# Altium schematic symbol library parts.SCHLIB: 30 symbols
Pins are listed as number, name and electrical type; pins without a type are passive.

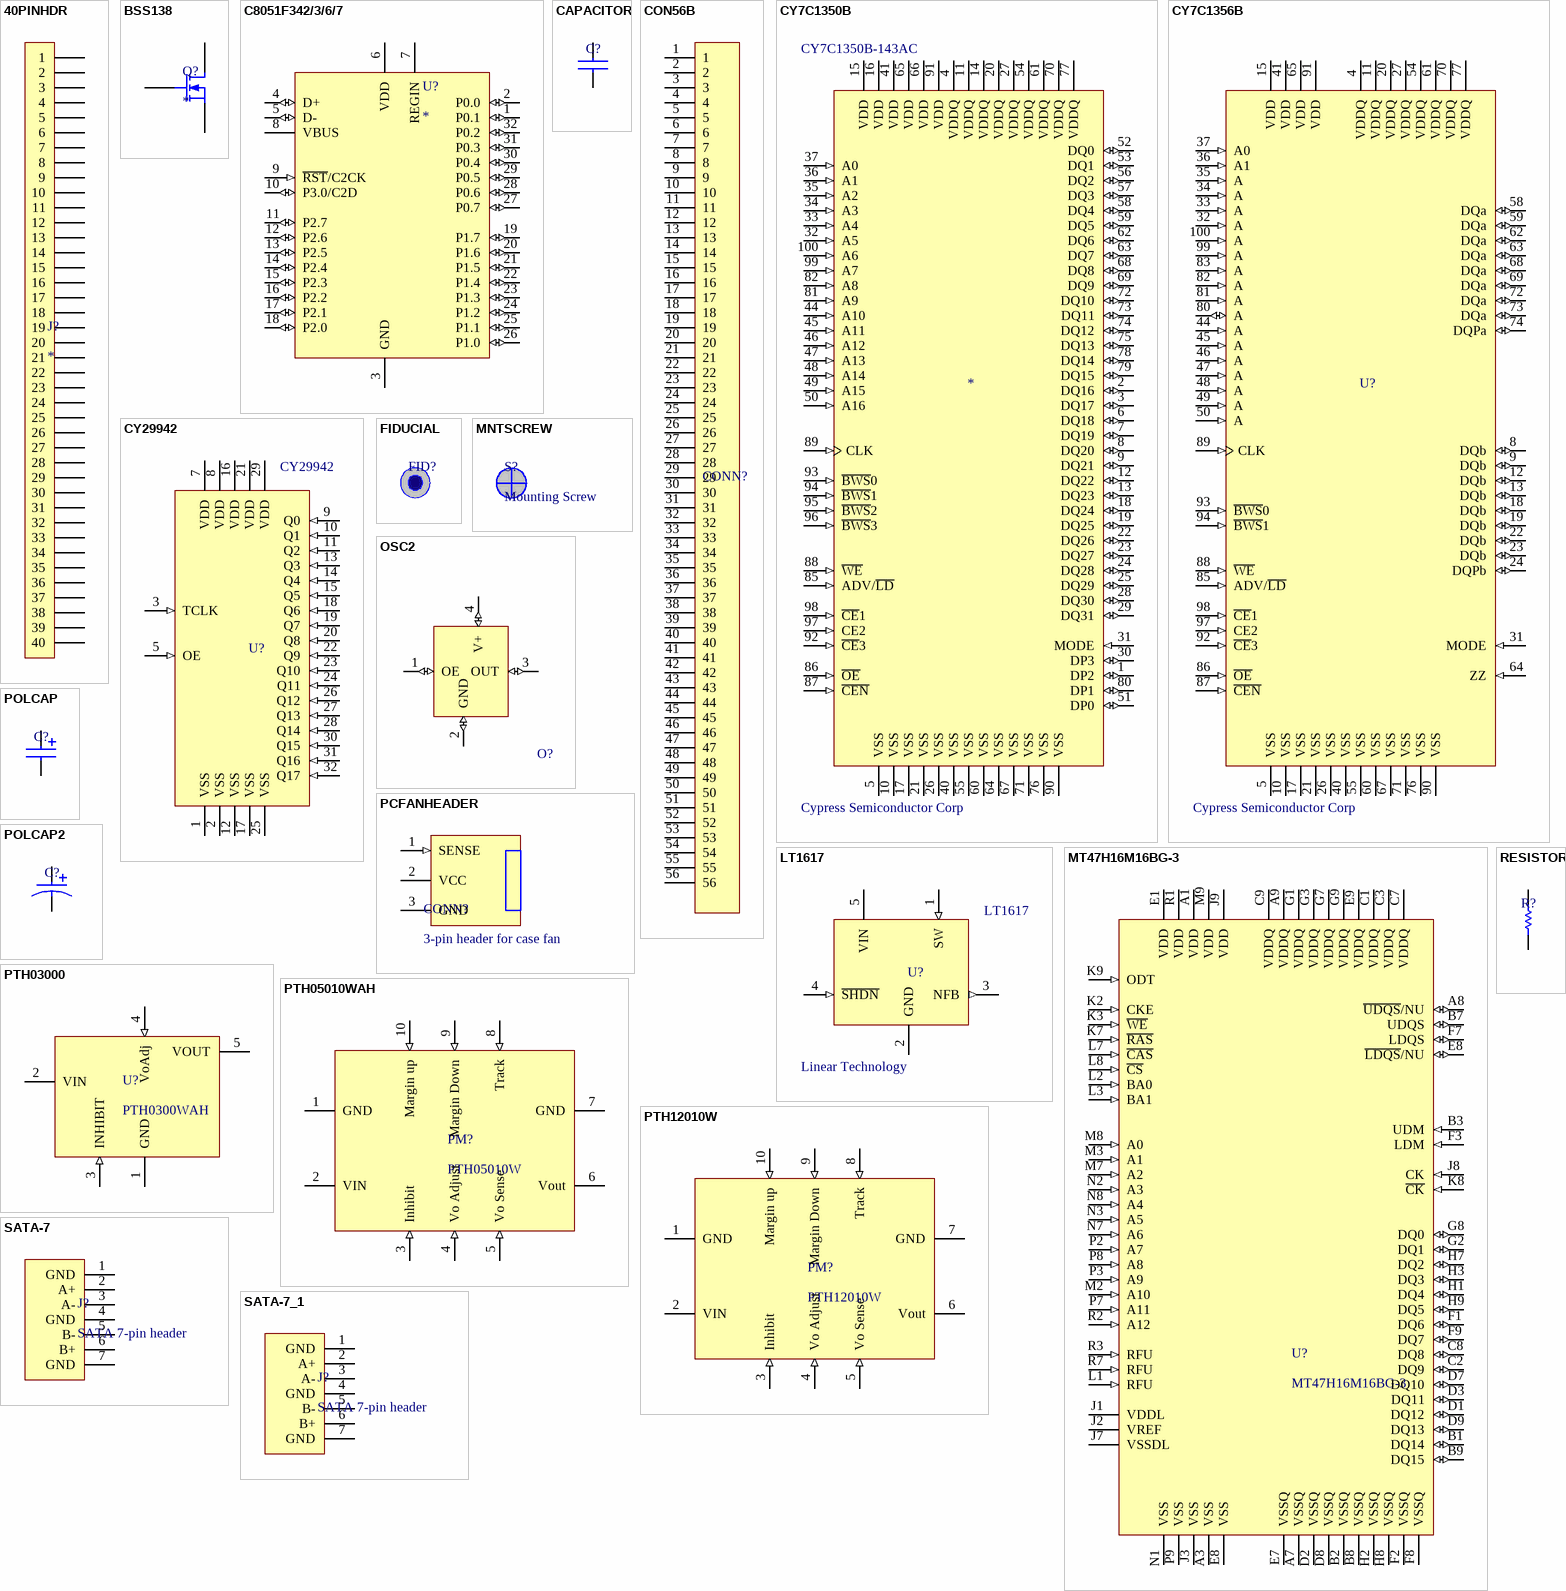
[diagram p0: symbols 40PINHDR to SATA-7_1]

## 40PINHDR
designator J?
footprint Model Name (Footprint not found)
pins: 1, 2, 3, 4, 5, 6, 7, 8, 9, 10, 11, 12, 13, 14, 15, 16, 17, 18, 19, 20, 21, 22, 23, 24, 25, 26, 27, 28, 29, 30, 31, 32, 33, 34, 35, 36, 37, 38, 39, 40

## BSS138
designator Q?
footprint SO-G3/D4.1 (SOT-23; 3 Leads; Body 3.0 x 2.5 mm, inc. leads (LxW max), Alternate Lead Configuration)
pins: 1 D, 2 G, 3 S

## C8051F342/3/6/7
designator U?
SiLiabs USB Micro
footprint QFP7x7-G32/N (QFP; 32 Leads; Body 7 x 7 mm; Pitch 0.8 mm)
pins: 1 P0.1 (io), 2 P0.0 (io), 3 GND (power), 4 D+ (io), 5 D- (io), 6 VDD (power), 7 REGIN (power), 8 VBUS (power), 9 ~{RST}/C2CK (in), 10 P3.0/C2D (io), 11 P2.7 (io), 12 P2.6 (io), 13 P2.5 (io), 14 P2.4 (io), 15 P2.3 (io), 16 P2.2 (io), 17 P2.1 (io), 18 P2.0 (io), 19 P1.7 (io), 20 P1.6 (io), 21 P1.5 (io), 22 P1.4 (io), 23 P1.3 (io), 24 P1.2 (io), 25 P1.1 (io), 26 P1.0 (io), 27 P0.7 (io), 28 P0.6 (io), 29 P0.5 (io), 30 P0.4 (io), 31 P0.3 (io), 32 P0.2 (io)

## CAPACITOR
designator C?
Standard Capacitor; Type: X7R
footprint 0603 (Standard-sized 0603 Passive)
pins: 1, 2

## CON56B
designator CONN?  (value not drawn)
footprint HDR56
pins: 1, 2, 3, 4, 5, 6, 7, 8, 9, 10, 11, 12, 13, 14, 15, 16, 17, 18, 19, 20, 21, 22, 23, 24, 25, 26, 27, 28, 29, 30, 31, 32, 33, 34, 35, 36, 37, 38, 39, 40, 41, 42, 43, 44, 45, 46, 47, 48, 49, 50, 51, 52, 53, 54, 55, 56

## CY7C1350B
designator *, comment CY7C1350B-143AC  Vendor: Cypress Semiconductor Corp
NoBL Pipelined SRAM 128kx36
footprint R-QFP14x20-G100/N
pins: 1 DP2 (io), 2 DQ16 (io), 3 DQ17 (io), 4 VDDQ (power), 5 VSS (power), 6 DQ18 (io), 7 DQ19 (io), 8 DQ20 (io), 9 DQ21 (io), 10 VSS (power), 11 VDDQ (power), 12 DQ22 (io), 13 DQ23 (io), 14 VDDQ (power), 15 VDD (power), 16 VDD (power), 17 VSS (power), 18 DQ24 (io), 19 DQ25 (io), 20 VDDQ (power), 21 VSS (power), 22 DQ26 (io), 23 DQ27 (io), 24 DQ28 (io), 25 DQ29 (io), 26 VSS (power), 27 VDDQ (power), 28 DQ30 (io), 29 DQ31 (io), 30 DP3 (io), 31 MODE (in), 32 A5 (in), 33 A4 (in), 34 A3 (in), 35 A2 (in), 36 A1 (in), 37 A0 (in), 40 VSS (power), 41 VDD (power), 44 A10 (in), 45 A11 (in), 46 A12 (in), 47 A13 (in), 48 A14 (in), 49 A15 (in), 50 A16 (in), 51 DP0 (io), 52 DQ0 (io), 53 DQ1 (io), 54 VDDQ (power), 55 VSS (power), 56 DQ2 (io), 57 DQ3 (io), 58 DQ4 (io), 59 DQ5 (io), 60 VSS (power), 61 VDDQ (power), 62 DQ6 (io), 63 DQ7 (io), 64 VSS (power), 65 VDD (power), 66 VDD (power), 67 VSS (power), 68 DQ8 (io), 69 DQ9 (io), 70 VDDQ (power), 71 VSS (power), 72 DQ10 (io), 73 DQ11 (io), 74 DQ12 (io), 75 DQ13 (io), 76 VSS (power), 77 VDDQ (power), 78 DQ14 (io), 79 DQ15 (io), 80 DP1 (io), 81 A9 (in), 82 A8 (in), 85 ADV/~{LD} (in), 86 ~{OE} (in), 87 ~{CEN} (in), 88 ~{WE} (in), 89 CLK (in), 90 VSS (power), 91 VDD (power), 92 ~{CE}3 (in), 93 ~{BWS}0 (in), 94 ~{BWS}1 (in), 95 ~{BWS}2 (in), 96 ~{BWS}3 (in), 97 CE2 (in), 98 ~{CE}1 (in), 99 A7 (in), 100 A6 (in)

## CY7C1356B
designator U?  Vendor: Cypress Semiconductor Corp
NoBL Pipelined SRAM 512kx18
footprint R-QFP14x20-G100/N
pins: 4 VDDQ (power), 5 VSS (power), 8 DQb (io), 9 DQb (io), 10 VSS (power), 11 VDDQ (power), 12 DQb (io), 13 DQb (io), 15 VDD (power), 17 VSS (power), 18 DQb (io), 19 DQb (io), 20 VDDQ (power), 21 VSS (power), 22 DQb (io), 23 DQb (io), 24 DQPb (io), 26 VSS (power), 27 VDDQ (power), 31 MODE (in), 32 A (in), 33 A (in), 34 A (in), 35 A (in), 36 A1 (in), 37 A0 (in), 40 VSS (power), 41 VDD (power), 44 A (in), 45 A (in), 46 A (in), 47 A (in), 48 A (in), 49 A (in), 50 A (in), 54 VDDQ (power), 55 VSS (power), 58 DQa (io), 59 DQa (io), 60 VSS (power), 61 VDDQ (power), 62 DQa (io), 63 DQa (io), 64 ZZ (in), 65 VDD (power), 67 VSS (power), 68 DQa (io), 69 DQa (io), 70 VDDQ (power), 71 VSS (power), 72 DQa (io), 73 DQa (io), 74 DQPa (io), 76 VSS (power), 77 VDDQ (power), 80 A (io), 81 A (in), 82 A (in), 83 A (in), 85 ADV/~{LD} (in), 86 ~{OE} (in), 87 ~{CEN} (in), 88 ~{WE} (in), 89 CLK (in), 90 VSS (power), 91 VDD (power), 92 ~{CE}3 (in), 93 ~{BWS}0 (in), 94 ~{BWS}1 (in), 97 CE2 (in), 98 ~{CE}1 (in), 99 A (in), 100 A (in)

## CY29942
designator U?
LVTTL 1:18 clock distribution IC
footprint QFP7X7-G32/N
pins: 1 VSS (power), 2 VSS (power), 3 TCLK (in), 5 OE (in), 7 VDD (power), 8 VDD (power), 9 Q0 (in), 10 Q1 (in), 11 Q2 (in), 12 VSS (power), 13 Q3 (in), 14 Q4 (in), 15 Q5 (in), 16 VDD (power), 17 VSS (power), 18 Q6 (in), 19 Q7 (in), 20 Q8 (in), 21 VDD (power), 22 Q9 (in), 23 Q10 (in), 24 Q11 (in), 25 VSS (power), 26 Q12 (in), 27 Q13 (in), 28 Q14 (in), 29 VDD (power), 30 Q15 (in), 31 Q16 (in), 32 Q17 (in)

## FIDUCIAL
designator FID?  (value not drawn)
Fiducial
footprint FIDUCIAL (Fiducial footprint as recommended by PCBpro)

## LT1617
designator U?  Vendor: Linear Technology
Micropower Inverting DC/DC converter
footprint SO-G5/P.95
pins: 1 SW (in), 2 GND (power), 3 NFB (out), 4 ~{SHDN} (in), 5 VIN (power)

## MNTSCREW
designator S?, comment Mounting Screw
footprint SCREW6-32 (6-32 screw)

## MT47H16M16BG-3
designator U?
Micron DDR2 SDRAM
footprint MICRON84FBGA (Footprint not found)
pins: A1 VDD (power), A3 VSS (power), A7 VSSQ (power), A8 ~{UDQS}/NU (io), A9 VDDQ (power), B1 DQ14 (io), B2 VSSQ (power), B3 UDM (in), B7 UDQS (io), B8 VSSQ (power), B9 DQ15 (io), C1 VDDQ (power), C2 DQ9 (io), C3 VDDQ (power), C7 VDDQ (power), C8 DQ8 (io), C9 VDDQ (power), D1 DQ12 (io), D2 VSSQ (power), D3 DQ11 (io), D7 DQ10 (io), D8 VSSQ (power), D9 DQ13 (io), E1 VDD (power), E7 VSSQ (power), E8 VSS (power), E8 ~{LDQS}/NU (io), E9 VDDQ (power), F1 DQ6 (io), F2 VSSQ (power), F3 LDM (in), F7 LDQS (io), F8 VSSQ (power), F9 DQ7 (io), G1 VDDQ (power), G2 DQ1 (io), G3 VDDQ (power), G7 VDDQ (power), G8 DQ0 (io), G9 VDDQ (power), H1 DQ4 (io), H2 VSSQ (power), H3 DQ3 (io), H7 DQ2 (io), H8 VSSQ (power), H9 DQ5 (io), J1 VDDL (power), J2 VREF (power), J3 VSS (power), J7 VSSDL (power), J8 CK (in), J9 VDD (power), K2 CKE (in), K3 ~{WE} (in), K7 ~{RAS} (in), K8 ~{CK} (in), K9 ODT (in), L1 RFU (in), L2 BA0 (in), L3 BA1 (in), L7 ~{CAS} (in), L8 ~{CS} (in), M2 A10 (in), M3 A1 (in), M7 A2 (in), M8 A0 (in), M9 VDD (power), N1 VSS (power), N2 A3 (in), N3 A5 (in), N7 A6 (in), N8 A4 (in), P2 A7 (in), P3 A9 (in), P7 A11 (in), P8 A8 (in), P9 VSS (power), R1 VDD (power), R2 A12 (in), R3 RFU (in), R7 RFU (in)

## OSC2
designator O?
ECS SMD Oscillator, ECS-3953M
footprint ECS-3953M (ECS SMD CLOCK OSCILLATOR)
pins: 1 OE (io), 2 GND (io), 3 OUT (io), 4 V+ (io)

## PCFANHEADER
designator CONN?, comment 3-pin header for case fan
footprint CASEFANHDR (3-pin polarized case fan header)
pins: 1 SENSE (in), 2 VCC (power), 3 GND (power)

## POLCAP
designator C?
Standard Capacitor; Type: X7R
footprint 3216 (Standard-Sized 3216 Polarized Leadless Cap)
pins: 1, 2

## POLCAP2
designator C?
Standard Capacitor; Type: Tantalum
footprint 3216 (Standard-Sized 3216 Polarized Leadless Cap)
pins: 1, 2

## PTH03000
designator U?, comment PTH0300WAH
TI 6A 3.3V Input Power Modle
footprint TI EUS (Package for TI PTH03000W)
pins: 1 GND (power), 2 VIN (power), 3 INHIBIT (in), 4 VoAdj (in), 5 VOUT (power)

## PTH05010WAH
designator PM?, comment PTH05010W
15-A 5V Input Non-isolated wide-output adj
footprint PTH03010WTH (Through-hole power module)
pins: 1 GND (power), 2 VIN (power), 3 Inhibit (in), 4 Vo Adjust (in), 5 Vo Sense (in), 6 Vout (power), 7 GND (power), 8 Track (in), 9 Margin Down (in), 10 Margin up (in)

## PTH12010W
designator PM?
12A 12V Input Non-isolated wide-output adj
footprint PTH12010WAS (Through-hole power module - EUJ package)
pins: 1 GND (power), 2 VIN (power), 3 Inhibit (in), 4 Vo Adjust (in), 5 Vo Sense (in), 6 Vout (power), 7 GND (power), 8 Track (in), 9 Margin Down (in), 10 Margin up (in)

## RESISTOR
designator R?
Standard Passive Resistor
footprint 0603 (Standard-sized 0603 Passive)
pins: 1, 2

## SATA-7
designator J?, comment SATA 7-pin header
footprint MOLES 67800-5005 (SATA vertical PCB HEADER SMT)
pins: 1 GND, 2 A+, 3 A-, 4 GND, 5 B-, 6 B+, 7 GND

## SATA-7_1
designator J?, comment SATA 7-pin header
footprint MOLES 67800-5005 (SATA vertical PCB HEADER SMT)
pins: 1 GND, 2 A+, 3 A-, 4 GND, 5 B-, 6 B+, 7 GND

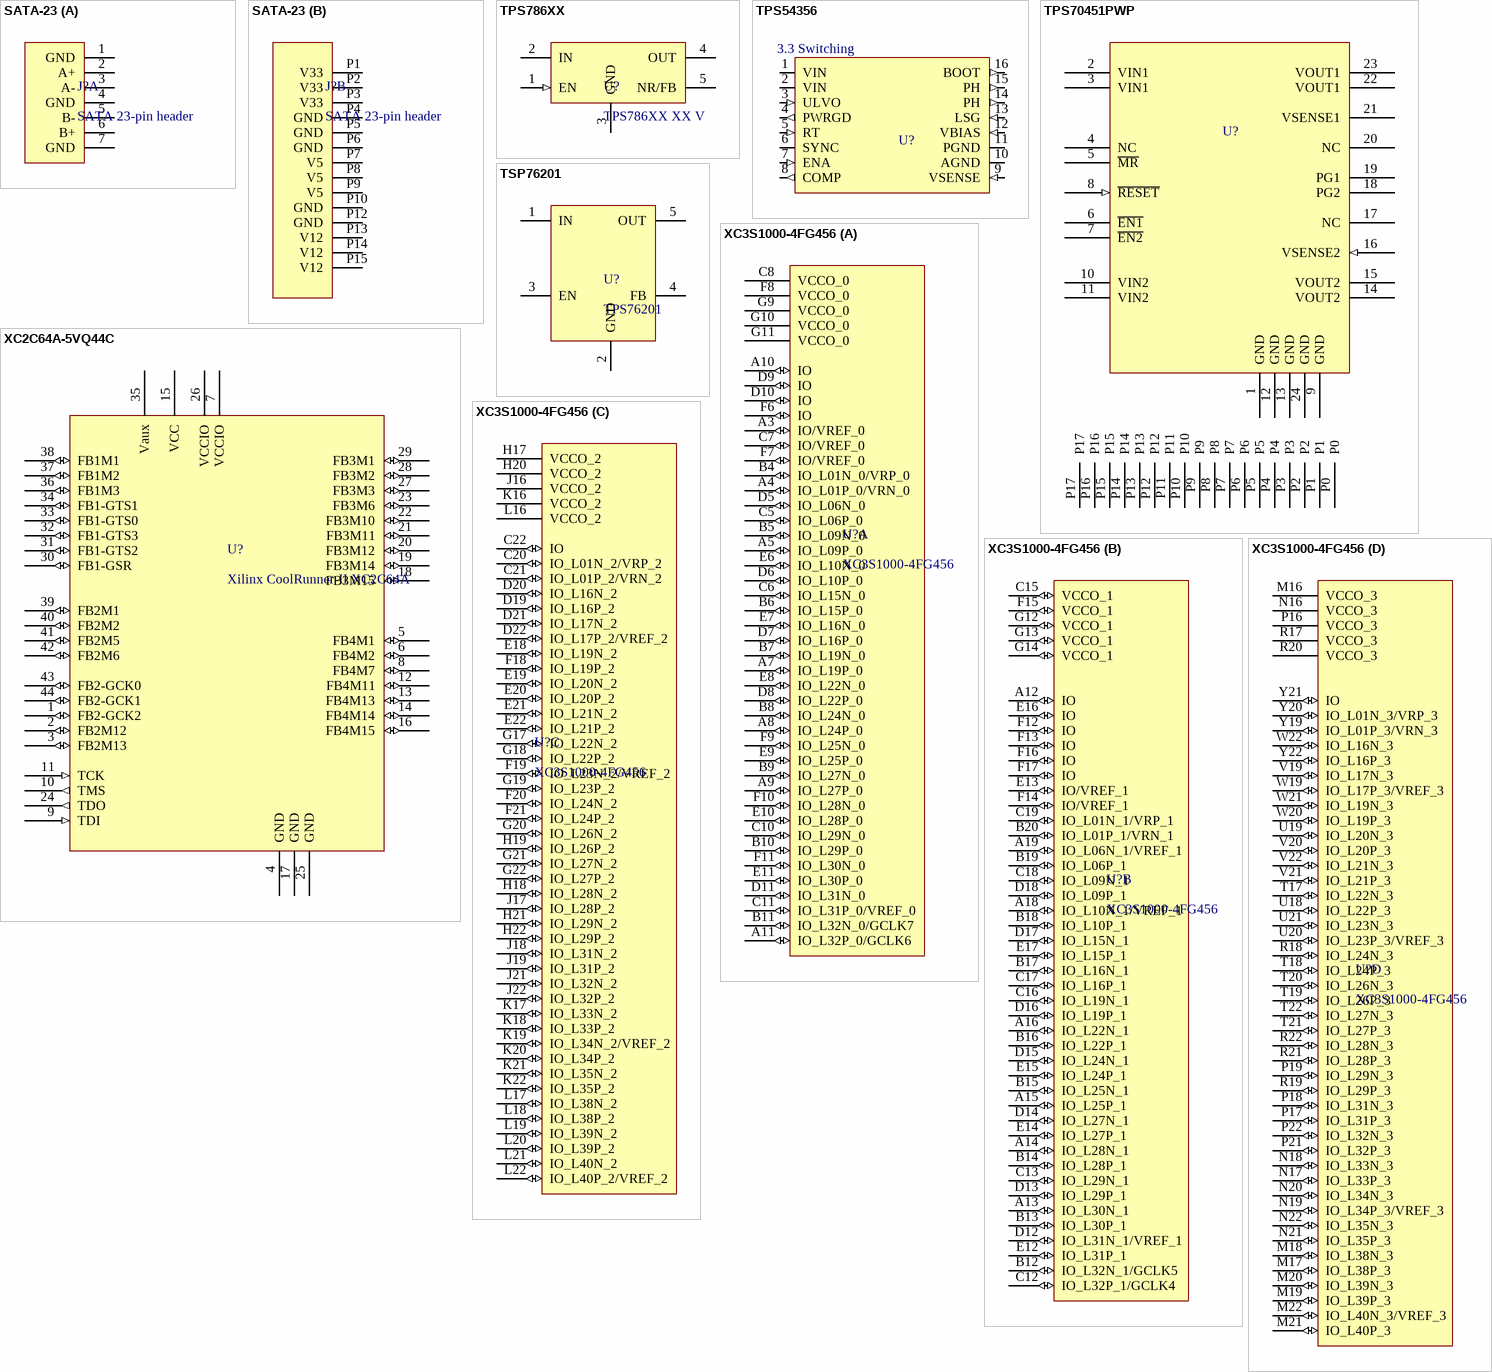
[diagram p1: symbols SATA-23 to XC3S1000-4FG456]

## SATA-23
designator J?, comment SATA 23-pin header
footprint MOLEX 87713-1001 (Molex Serial ATA Backplane Std. Height)
part A pins: 1 GND, 2 A+, 3 A-, 4 GND, 5 B-, 6 B+, 7 GND
part B pins: P1 V33, P2 V33, P3 V33, P4 GND, P5 GND, P6 GND, P7 V5, P8 V5, P9 V5, P10 GND, P12 GND, P13 V12, P14 V12, P15 V12

## TPS786XX
designator U?, comment TPS786XX XX V
TI 1.5A LDO
footprint KTT (TI DDPAK-5)
pins: 1 EN (in), 2 IN (power), 3 GND (power), 4 OUT (power), 5 NR/FB (power)

## TPS54356
designator U?, comment 3.3 Switching
TI 3A 3.3V out switching Regulator
footprint PWP PowerPad - 16
pins: 1 VIN (power), 2 VIN (power), 3 ULVO (in), 4 PWRGD (out), 5 RT (in), 6 SYNC (io), 7 ENA (in), 8 COMP (out), 9 VSENSE (in), 10 AGND (power), 11 PGND (power), 12 VBIAS (in), 13 LSG (in), 14 PH (out), 15 PH (out), 16 BOOT (out), P0 PAD (power) hidden to GND, P1 PAD (power) hidden to GND, P2 PAD (power) hidden to GND, P2 PAD (power) hidden to GND, P3 PAD (power) hidden to GND, P3 PAD (power) hidden to GND, P4 PAD (power) hidden to GND, P5 PAD (power) hidden to GND, P6 PAD (power) hidden to GND, P7 PAD (power) hidden to GND, P8 PAD (power) hidden to GND, P9 PAD (power) hidden to GND, P10 PAD (power) hidden to GND, P11 PAD (power) hidden to GND, P12 PAD (power) hidden to GND, P13 PAD (power) hidden to GND, P14 PAD (power) hidden to GND, P15 PAD (power) hidden to GND, P16 PAD (power) hidden to GND, P17 PAD (power) hidden to GND

## TPS70451PWP
designator U?  (value not drawn)
Dual-output High Current LDO; Vendor: Texas Instruments
footprint POWERPAD-24
pins: 1 GND (power), 2 VIN1 (power), 3 VIN1 (power), 4 NC, 5 ~{MR}, 6 ~{EN1}, 7 ~{EN2}, 8 ~{RESET} (in), 9 GND (power), 10 VIN2 (power), 11 VIN2 (power), 12 GND (power), 13 GND (power), 14 VOUT2 (power), 15 VOUT2 (power), 16 VSENSE2 (in), 17 NC, 18 PG2, 19 PG1, 20 NC, 21 VSENSE1, 22 VOUT1 (power), 23 VOUT1 (power), 24 GND (power), P0 (power), P1 (power), P2 (power), P3 (power), P4 (power), P5 (power), P6 (power), P7 (power), P8 (power), P9 (power), P10 (power), P11 (power), P12 (power), P13 (power), P14 (power), P15 (power), P16 (power), P17 (power)

## TSP76201
designator U?, comment TPS76201
TI 100mA LDO
footprint SO-G5/X.5 (SOT-23/SC-74A; 5 Leads; Body 3 x 3 mm, inc. leads (LxW max))
pins: 1 IN (power), 2 GND (power), 3 EN (power), 4 FB (power), 5 OUT (power)

## XC2C64A-5VQ44C
designator U?, comment Xilinx CoolRunner-II XC2C64A
footprint QFP10x10-G44/G10N (QFP, Metric; 44 Leads; Body 10 x 10 mm; Pitch 0.8 mm)
pins: 1 FB2-GCK2 (io), 2 FB2M12 (io), 3 FB2M13 (io), 4 GND (power), 5 FB4M1 (io), 6 FB4M2 (io), 7 VCCIO (power), 8 FB4M7 (io), 9 TDI (in), 10 TMS (out), 11 TCK (in), 12 FB4M11 (io), 13 FB4M13 (io), 14 FB4M14 (io), 15 VCC (power), 16 FB4M15 (io), 17 GND (power), 18 FB3M15 (io), 19 FB3M14 (io), 20 FB3M12 (io), 21 FB3M11 (io), 22 FB3M10 (io), 23 FB3M6 (io), 24 TDO (out), 25 GND (power), 26 VCCIO (power), 27 FB3M3 (io), 28 FB3M2 (io), 29 FB3M1 (io), 30 FB1-GSR (io), 31 FB1-GTS2 (io), 32 FB1-GTS3 (io), 33 FB1-GTS0 (io), 34 FB1-GTS1 (io), 35 Vaux (power), 36 FB1M3 (io), 37 FB1M2 (io), 38 FB1M1 (io), 39 FB2M1 (io), 40 FB2M2 (io), 41 FB2M5 (io), 42 FB2M6 (io), 43 FB2-GCK0 (io), 44 FB2-GCK1 (io)

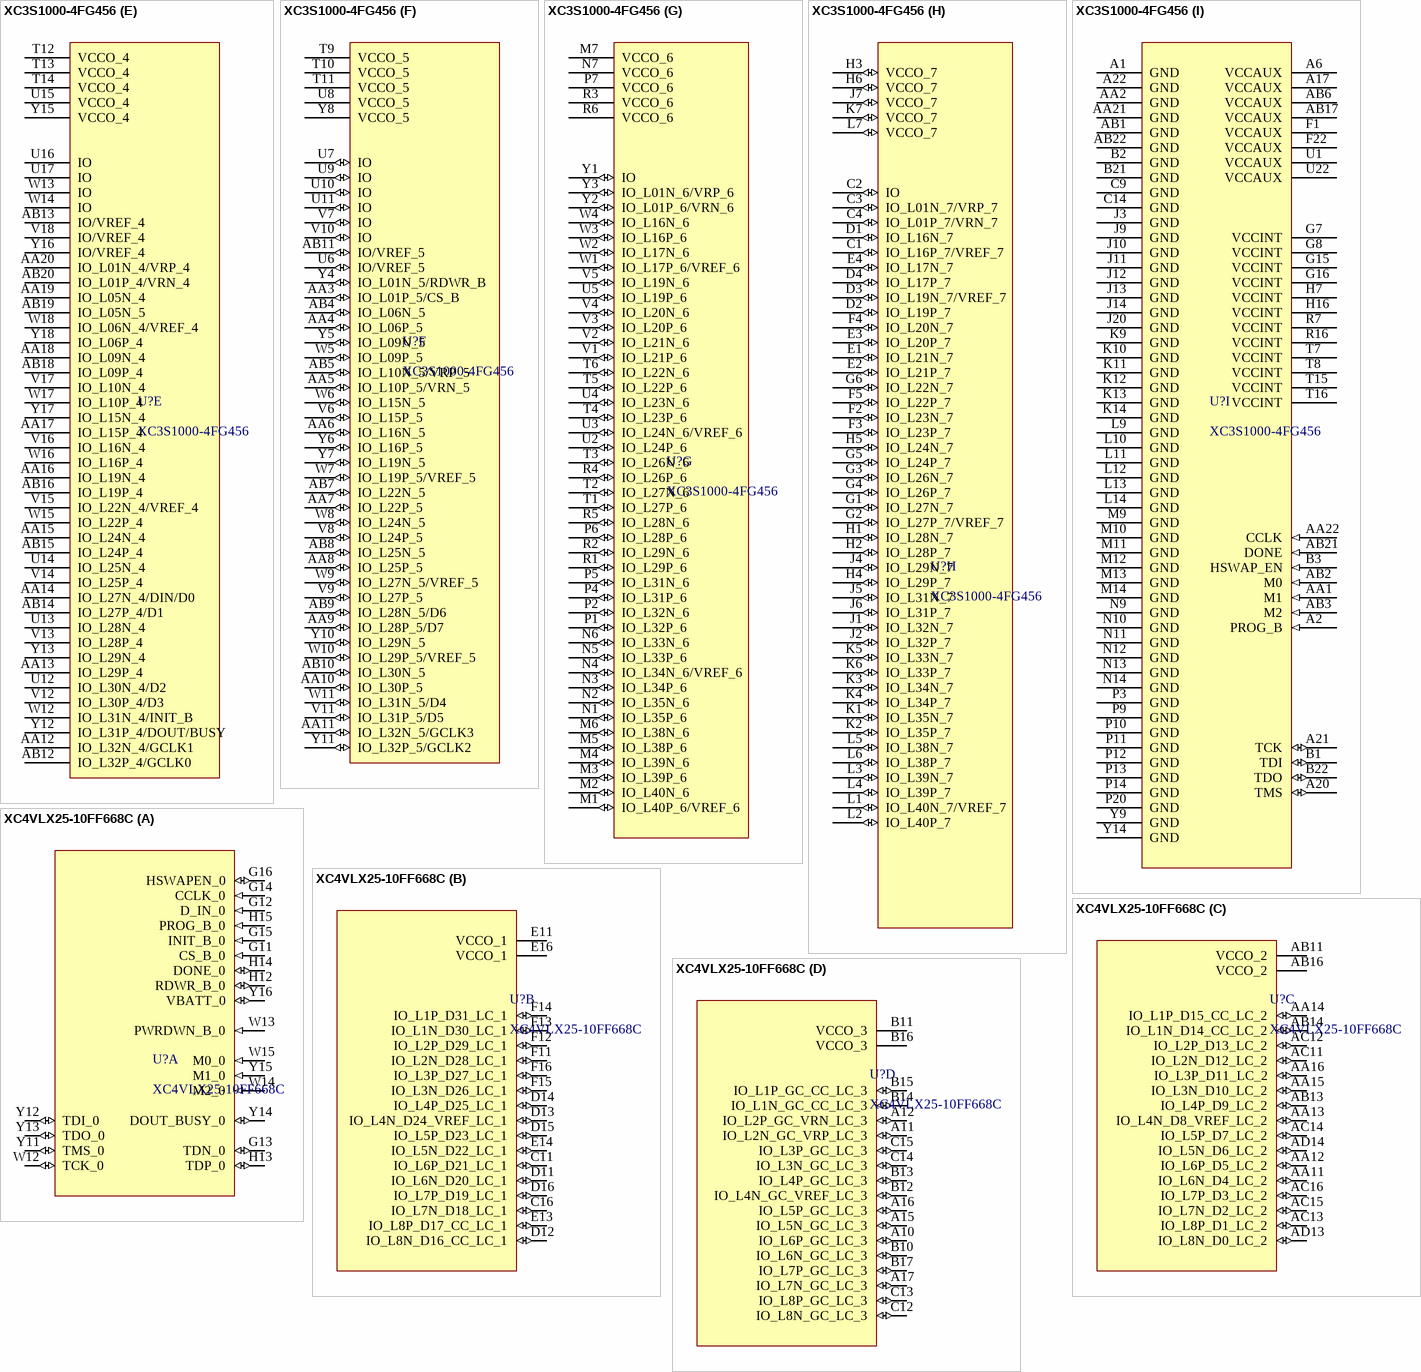
[diagram p2: symbols XC3S1000-4FG456 to XC4VLX25-10FF668C]

## XC3S1000-4FG456
designator U?
Xilinx Spartan-3 FPGA; Vendor: Xilinx
footprint FG456 (456-Ball Fine Pitch Ball Grid Array (FG456), From Altium Lib)
part A pins: A3 IO/VREF_0 (io), A4 IO_L01P_0/VRN_0 (io), A5 IO_L09P_0 (io), A7 IO_L19P_0 (io), A8 IO_L24P_0 (io), A9 IO_L27P_0 (io), A10 IO (io), A11 IO_L32P_0/GCLK6 (io), B4 IO_L01N_0/VRP_0 (io), B5 IO_L09N_0 (io), B6 IO_L15P_0 (io), B7 IO_L19N_0 (io), B8 IO_L24N_0 (io), B9 IO_L27N_0 (io), B10 IO_L29P_0 (io), B11 IO_L32N_0/GCLK7 (io), C5 IO_L06P_0 (io), C6 IO_L15N_0 (io), C7 IO/VREF_0 (io), C8 VCCO_0 (power), C10 IO_L29N_0 (io), C11 IO_L31P_0/VREF_0 (io), D5 IO_L06N_0 (io), D6 IO_L10P_0 (io), D7 IO_L16P_0 (io), D8 IO_L22P_0 (io), D9 IO (io), D10 IO (io), D11 IO_L31N_0 (io), E6 IO_L10N_0 (io), E7 IO_L16N_0 (io), E8 IO_L22N_0 (io), E9 IO_L25P_0 (io), E10 IO_L28P_0 (io), E11 IO_L30P_0 (io), F6 IO (io), F7 IO/VREF_0 (io), F8 VCCO_0 (power), F9 IO_L25N_0 (io), F10 IO_L28N_0 (io), F11 IO_L30N_0 (io), G9 VCCO_0 (power), G10 VCCO_0 (power), G11 VCCO_0 (power)
part B pins: A12 IO (io), A13 IO_L30N_1 (io), A14 IO_L28N_1 (io), A15 IO_L25P_1 (io), A16 IO_L22N_1 (io), A18 IO_L10N_1/VREF_1 (io), A19 IO_L06N_1/VREF_1 (io), B12 IO_L32N_1/GCLK5 (io), B13 IO_L30P_1 (io), B14 IO_L28P_1 (io), B15 IO_L25N_1 (io), B16 IO_L22P_1 (io), B17 IO_L16N_1 (io), B18 IO_L10P_1 (io), B19 IO_L06P_1 (io), B20 IO_L01P_1/VRN_1 (io), C12 IO_L32P_1/GCLK4 (io), C13 IO_L29N_1 (io), C15 VCCO_1 (io), C16 IO_L19N_1 (io), C17 IO_L16P_1 (io), C18 IO_L09N_1 (io), C19 IO_L01N_1/VRP_1 (io), D12 IO_L31N_1/VREF_1 (io), D13 IO_L29P_1 (io), D14 IO_L27N_1 (io), D15 IO_L24N_1 (io), D16 IO_L19P_1 (io), D17 IO_L15N_1 (io), D18 IO_L09P_1 (io), E12 IO_L31P_1 (io), E13 IO/VREF_1 (io), E14 IO_L27P_1 (io), E15 IO_L24P_1 (io), E16 IO (io), E17 IO_L15P_1 (io), F12 IO (io), F13 IO (io), F14 IO/VREF_1 (io), F15 VCCO_1 (io), F16 IO (io), F17 IO (io), G12 VCCO_1 (io), G13 VCCO_1 (io), G14 VCCO_1 (io)
part C pins: C20 IO_L01N_2/VRP_2 (io), C21 IO_L01P_2/VRN_2 (io), C22 IO (io), D19 IO_L16P_2 (io), D20 IO_L16N_2 (io), D21 IO_L17N_2 (io), D22 IO_L17P_2/VREF_2 (io), E18 IO_L19N_2 (io), E19 IO_L20N_2 (io), E20 IO_L20P_2 (io), E21 IO_L21N_2 (io), E22 IO_L21P_2 (io), F18 IO_L19P_2 (io), F19 IO_L23N_2/VREF_2 (io), F20 IO_L24N_2 (io), F21 IO_L24P_2 (io), G17 IO_L22N_2 (io), G18 IO_L22P_2 (io), G19 IO_L23P_2 (io), G20 IO_L26N_2 (io), G21 IO_L27N_2 (io), G22 IO_L27P_2 (io), H17 VCCO_2 (power), H18 IO_L28N_2 (io), H19 IO_L26P_2 (io), H20 VCCO_2 (power), H21 IO_L29N_2 (io), H22 IO_L29P_2 (io), J16 VCCO_2 (power), J17 IO_L28P_2 (io), J18 IO_L31N_2 (io), J19 IO_L31P_2 (io), J21 IO_L32N_2 (io), J22 IO_L32P_2 (io), K16 VCCO_2 (power), K17 IO_L33N_2 (io), K18 IO_L33P_2 (io), K19 IO_L34N_2/VREF_2 (io), K20 IO_L34P_2 (io), K21 IO_L35N_2 (io), K22 IO_L35P_2 (io), L16 VCCO_2 (power), L17 IO_L38N_2 (io), L18 IO_L38P_2 (io), L19 IO_L39N_2 (io), L20 IO_L39P_2 (io), L21 IO_L40N_2 (io), L22 IO_L40P_2/VREF_2 (io)
part D pins: M16 VCCO_3 (power), M17 IO_L38P_3 (io), M18 IO_L38N_3 (io), M19 IO_L39P_3 (io), M20 IO_L39N_3 (io), M21 IO_L40P_3 (io), M22 IO_L40N_3/VREF_3 (io), N16 VCCO_3 (power), N17 IO_L33P_3 (io), N18 IO_L33N_3 (io), N19 IO_L34P_3/VREF_3 (io), N20 IO_L34N_3 (io), N21 IO_L35P_3 (io), N22 IO_L35N_3 (io), P16 VCCO_3 (power), P17 IO_L31P_3 (io), P18 IO_L31N_3 (io), P19 IO_L29N_3 (io), P21 IO_L32P_3 (io), P22 IO_L32N_3 (io), R17 VCCO_3 (power), R18 IO_L24N_3 (io), R19 IO_L29P_3 (io), R20 VCCO_3 (power), R21 IO_L28P_3 (io), R22 IO_L28N_3 (io), T17 IO_L22N_3 (io), T18 IO_L24P_3 (io), T19 IO_L26P_3 (io), T20 IO_L26N_3 (io), T21 IO_L27P_3 (io), T22 IO_L27N_3 (io), U18 IO_L22P_3 (io), U19 IO_L20N_3 (io), U20 IO_L23P_3/VREF_3 (io), U21 IO_L23N_3 (io), V19 IO_L17N_3 (io), V20 IO_L20P_3 (io), V21 IO_L21P_3 (io), V22 IO_L21N_3 (io), W19 IO_L17P_3/VREF_3 (io), W20 IO_L19P_3 (io), W21 IO_L19N_3 (io), W22 IO_L16N_3 (io), Y19 IO_L01P_3/VRN_3 (io), Y20 IO_L01N_3/VRP_3 (io), Y21 IO (io), Y22 IO_L16P_3 (io)
part E pins: AA12 IO_L32N_4/GCLK1 (power), AA13 IO_L29P_4 (power), AA14 IO_L27N_4/DIN/D0 (power), AA15 IO_L24N_4 (power), AA16 IO_L19N_4 (power), AA17 IO_L15P_4 (power), AA18 IO_L09N_4 (power), AA19 IO_L05N_4 (power), AA20 IO_L01N_4/VRP_4 (power), AB12 IO_L32P_4/GCLK0 (power), AB13 IO/VREF_4 (power), AB14 IO_L27P_4/D1 (power), AB15 IO_L24P_4 (power), AB16 IO_L19P_4 (power), AB18 IO_L09P_4 (power), AB19 IO_L05N_5 (power), AB20 IO_L01P_4/VRN_4 (power), T12 VCCO_4 (power), T13 VCCO_4 (power), T14 VCCO_4 (power), U12 IO_L30N_4/D2 (power), U13 IO_L28N_4 (power), U14 IO_L25N_4 (power), U15 VCCO_4 (power), U16 IO (power), U17 IO (power), V12 IO_L30P_4/D3 (power), V13 IO_L28P_4 (power), V14 IO_L25P_4 (power), V15 IO_L22N_4/VREF_4 (power), V16 IO_L16N_4 (power), V17 IO_L10N_4 (power), V18 IO/VREF_4 (power), W12 IO_L31N_4/INIT_B (power), W13 IO (power), W14 IO (power), W15 IO_L22P_4 (power), W16 IO_L16P_4 (power), W17 IO_L10P_4 (power), W18 IO_L06N_4/VREF_4 (power), Y12 IO_L31P_4/DOUT/BUSY (power), Y13 IO_L29N_4 (power), Y15 VCCO_4 (power), Y16 IO/VREF_4 (power), Y17 IO_L15N_4 (power), Y18 IO_L06P_4 (power)
part F pins: AA3 IO_L01P_5/CS_B (io), AA4 IO_L06P_5 (io), AA5 IO_L10P_5/VRN_5 (io), AA6 IO_L16N_5 (io), AA7 IO_L22P_5 (io), AA8 IO_L25P_5 (io), AA9 IO_L28P_5/D7 (io), AA10 IO_L30P_5 (io), AA11 IO_L32N_5/GCLK3 (io), AB4 IO_L06N_5 (io), AB5 IO_L10N_5/VRP_5 (io), AB7 IO_L22N_5 (io), AB8 IO_L25N_5 (io), AB9 IO_L28N_5/D6 (io), AB10 IO_L30N_5 (io), AB11 IO/VREF_5 (io), T9 VCCO_5 (power), T10 VCCO_5 (power), T11 VCCO_5 (power), U6 IO/VREF_5 (io), U7 IO (io), U8 VCCO_5 (power), U9 IO (io), U10 IO (io), U11 IO (io), V6 IO_L15P_5 (io), V7 IO (io), V8 IO_L24P_5 (io), V9 IO_L27P_5 (io), V10 IO (io), V11 IO_L31P_5/D5 (io), W5 IO_L09P_5 (io), W6 IO_L15N_5 (io), W7 IO_L19P_5/VREF_5 (io), W8 IO_L24N_5 (io), W9 IO_L27N_5/VREF_5 (io), W10 IO_L29P_5/VREF_5 (io), W11 IO_L31N_5/D4 (io), Y4 IO_L01N_5/RDWR_B (io), Y5 IO_L09N_5 (io), Y6 IO_L16P_5 (io), Y7 IO_L19N_5 (io), Y8 VCCO_5 (power), Y10 IO_L29N_5 (io), Y11 IO_L32P_5/GCLK2 (io)
part G pins: M1 IO_L40P_6/VREF_6 (io), M2 IO_L40N_6 (io), M3 IO_L39P_6 (io), M4 IO_L39N_6 (io), M5 IO_L38P_6 (io), M6 IO_L38N_6 (io), M7 VCCO_6 (power), N1 IO_L35P_6 (io), N2 IO_L35N_6 (io), N3 IO_L34P_6 (io), N4 IO_L34N_6/VREF_6 (io), N5 IO_L33P_6 (io), N6 IO_L33N_6 (io), N7 VCCO_6 (power), P1 IO_L32P_6 (io), P2 IO_L32N_6 (io), P4 IO_L31P_6 (io), P5 IO_L31N_6 (io), P6 IO_L28P_6 (io), P7 VCCO_6 (power), R1 IO_L29P_6 (io), R2 IO_L29N_6 (io), R3 VCCO_6 (power), R4 IO_L26P_6 (io), R5 IO_L28N_6 (io), R6 VCCO_6 (power), T1 IO_L27P_6 (io), T2 IO_L27N_6 (io), T3 IO_L26N_6 (io), T4 IO_L23P_6 (io), T5 IO_L22P_6 (io), T6 IO_L22N_6 (io), U2 IO_L24P_6 (io), U3 IO_L24N_6/VREF_6 (io), U4 IO_L23N_6 (io), U5 IO_L19P_6 (io), V1 IO_L21P_6 (io), V2 IO_L21N_6 (io), V3 IO_L20P_6 (io), V4 IO_L20N_6 (io), V5 IO_L19N_6 (io), W1 IO_L17P_6/VREF_6 (io), W2 IO_L17N_6 (io), W3 IO_L16P_6 (io), W4 IO_L16N_6 (io), Y1 IO (io), Y2 IO_L01P_6/VRN_6 (io), Y3 IO_L01N_6/VRP_6 (io)
part H pins: C1 IO_L16P_7/VREF_7 (io), C2 IO (io), C3 IO_L01N_7/VRP_7 (io), C4 IO_L01P_7/VRN_7 (io), D1 IO_L16N_7 (io), D2 IO_L19P_7 (io), D3 IO_L19N_7/VREF_7 (io), D4 IO_L17P_7 (io), E1 IO_L21N_7 (io), E2 IO_L21P_7 (io), E3 IO_L20P_7 (io), E4 IO_L17N_7 (io), F2 IO_L23N_7 (io), F3 IO_L23P_7 (io), F4 IO_L20N_7 (io), F5 IO_L22P_7 (io), G1 IO_L27N_7 (io), G2 IO_L27P_7/VREF_7 (io), G3 IO_L26N_7 (io), G4 IO_L26P_7 (io), G5 IO_L24P_7 (io), G6 IO_L22N_7 (io), H1 IO_L28N_7 (io), H2 IO_L28P_7 (io), H3 VCCO_7 (io), H4 IO_L29P_7 (io), H5 IO_L24N_7 (io), H6 VCCO_7 (io), J1 IO_L32N_7 (io), J2 IO_L32P_7 (io), J4 IO_L29N_7 (io), J5 IO_L31N_7 (io), J6 IO_L31P_7 (io), J7 VCCO_7 (io), K1 IO_L35N_7 (io), K2 IO_L35P_7 (io), K3 IO_L34N_7 (io), K4 IO_L34P_7 (io), K5 IO_L33N_7 (io), K6 IO_L33P_7 (io), K7 VCCO_7 (io), L1 IO_L40N_7/VREF_7 (io), L2 IO_L40P_7 (io), L3 IO_L39N_7 (io), L4 IO_L39P_7 (io), L5 IO_L38N_7 (io), L6 IO_L38P_7 (io), L7 VCCO_7 (io)
part I pins: A1 GND (power), A2 PROG_B (in), A6 VCCAUX (power), A17 VCCAUX (power), A20 TMS (io), A21 TCK (io), A22 GND (power), AA1 M1 (in), AA2 GND (power), AA21 GND (power), AA22 CCLK (in), AB1 GND (power), AB2 M0 (in), AB3 M2 (in), AB6 VCCAUX (power), AB17 VCCAUX (power), AB21 DONE (in), AB22 GND (power), B1 TDI (io), B2 GND (power), B3 HSWAP_EN (in), B21 GND (power), B22 TDO (io), C9 GND (power), C14 GND (power), F1 VCCAUX (power), F22 VCCAUX (power), G7 VCCINT (power), G8 VCCINT (power), G15 VCCINT (power), G16 VCCINT (power), H7 VCCINT (power), H16 VCCINT (power), J3 GND (power), J9 GND (power), J10 GND (power), J11 GND (power), J12 GND (power), J13 GND (power), J14 GND (power), J20 GND (power), K9 GND (power), K10 GND (power), K11 GND (power), K12 GND (power), K13 GND (power), K14 GND (power), L9 GND (power), L10 GND (power), L11 GND (power), L12 GND (power), L13 GND (power), L14 GND (power), M9 GND (power), M10 GND (power), M11 GND (power), M12 GND (power), M13 GND (power), M14 GND (power), N9 GND (power), N10 GND (power), N11 GND (power), N12 GND (power), N13 GND (power), N14 GND (power), P3 GND (power), P9 GND (power), P10 GND (power), P11 GND (power), P12 GND (power), P13 GND (power), P14 GND (power), P20 GND (power), R7 VCCINT (power), R16 VCCINT (power), T7 VCCINT (power), T8 VCCINT (power), T15 VCCINT (power), T16 VCCINT (power), U1 VCCAUX (power), U22 VCCAUX (power), Y9 GND (power), Y14 GND (power)

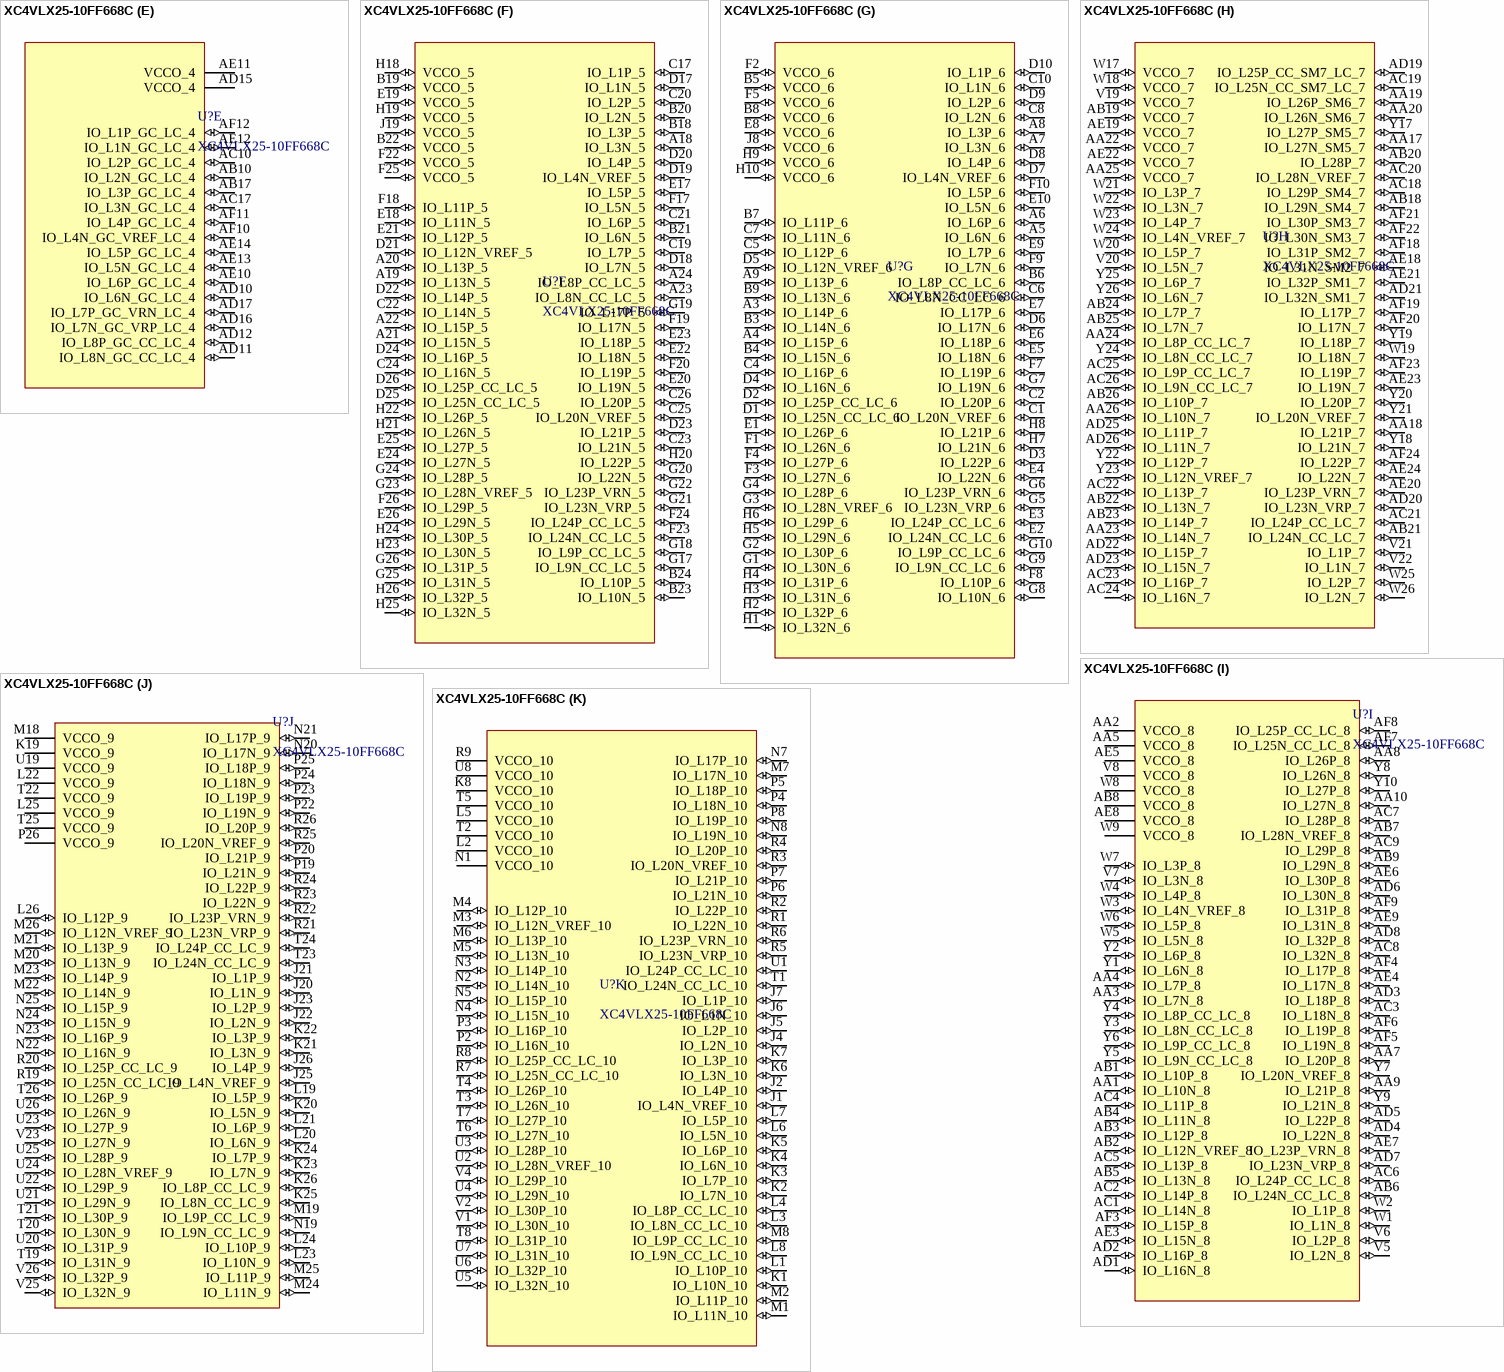
[diagram p3: symbol XC4VLX25-10FF668C]

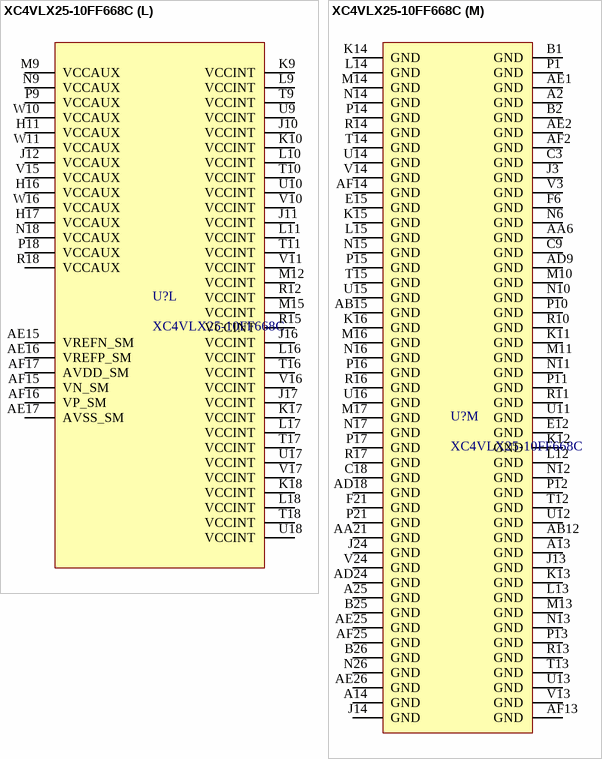
[diagram p4: symbol XC4VLX25-10FF668C]

## XC4VLX25-10FF668C
designator U?
Xilinx Virtex-4
footprint Xilinx FF668
part A pins: G11 CS_B_0 (in), G12 D_IN_0 (in), G13 TDN_0 (io), G14 CCLK_0 (in), G15 INIT_B_0 (in), G16 HSWAPEN_0 (io), H12 RDWR_B_0 (io), H13 TDP_0 (io), H14 DONE_0 (io), H15 PROG_B_0 (in), W12 TCK_0 (io), W13 PWRDWN_B_0 (in), W14 M2_0 (in), W15 M0_0 (in), Y11 TMS_0 (io), Y12 TDI_0 (io), Y13 TDO_0 (io), Y14 DOUT_BUSY_0 (io), Y15 M1_0 (in), Y16 VBATT_0 (io)
part B pins: C11 IO_L6P_D21_LC_1 (io), C16 IO_L7N_D18_LC_1 (io), D11 IO_L6N_D20_LC_1 (io), D12 IO_L8N_D16_CC_LC_1 (io), D13 IO_L4N_D24_VREF_LC_1 (io), D14 IO_L4P_D25_LC_1 (io), D15 IO_L5P_D23_LC_1 (io), D16 IO_L7P_D19_LC_1 (io), E11 VCCO_1 (power), E13 IO_L8P_D17_CC_LC_1 (io), E14 IO_L5N_D22_LC_1 (io), E16 VCCO_1 (power), F11 IO_L2N_D28_LC_1 (io), F12 IO_L2P_D29_LC_1 (io), F13 IO_L1N_D30_LC_1 (io), F14 IO_L1P_D31_LC_1 (io), F15 IO_L3N_D26_LC_1 (io), F16 IO_L3P_D27_LC_1 (io)
part C pins: AA11 IO_L6N_D4_LC_2 (io), AA12 IO_L6P_D5_LC_2 (io), AA13 IO_L4N_D8_VREF_LC_2 (io), AA14 IO_L1P_D15_CC_LC_2 (io), AA15 IO_L3N_D10_LC_2 (io), AA16 IO_L3P_D11_LC_2 (io), AB11 VCCO_2 (power), AB13 IO_L4P_D9_LC_2 (io), AB14 IO_L1N_D14_CC_LC_2 (io), AB16 VCCO_2 (power), AC11 IO_L2N_D12_LC_2 (io), AC12 IO_L2P_D13_LC_2 (io), AC13 IO_L8P_D1_LC_2 (io), AC14 IO_L5P_D7_LC_2 (io), AC15 IO_L7N_D2_LC_2 (io), AC16 IO_L7P_D3_LC_2 (io), AD13 IO_L8N_D0_LC_2 (io), AD14 IO_L5N_D6_LC_2 (io)
part D pins: A10 IO_L6P_GC_LC_3 (io), A11 IO_L2N_GC_VRP_LC_3 (io), A12 IO_L2P_GC_VRN_LC_3 (io), A15 IO_L5N_GC_LC_3 (io), A16 IO_L5P_GC_LC_3 (io), A17 IO_L7N_GC_LC_3 (io), B10 IO_L6N_GC_LC_3 (io), B11 VCCO_3 (power), B12 IO_L4N_GC_VREF_LC_3 (io), B13 IO_L4P_GC_LC_3 (io), B14 IO_L1N_GC_CC_LC_3 (io), B15 IO_L1P_GC_CC_LC_3 (io), B16 VCCO_3 (power), B17 IO_L7P_GC_LC_3 (io), C12 IO_L8N_GC_LC_3 (io), C13 IO_L8P_GC_LC_3 (io), C14 IO_L3N_GC_LC_3 (io), C15 IO_L3P_GC_LC_3 (io)
part E pins: AB10 IO_L2N_GC_LC_4 (io), AB17 IO_L3P_GC_LC_4 (io), AC10 IO_L2P_GC_LC_4 (io), AC17 IO_L3N_GC_LC_4 (io), AD10 IO_L6N_GC_LC_4 (io), AD11 IO_L8N_GC_CC_LC_4 (io), AD12 IO_L8P_GC_CC_LC_4 (io), AD15 VCCO_4 (power), AD16 IO_L7N_GC_VRP_LC_4 (io), AD17 IO_L7P_GC_VRN_LC_4 (io), AE10 IO_L6P_GC_LC_4 (io), AE11 VCCO_4 (power), AE12 IO_L1N_GC_LC_4 (io), AE13 IO_L5N_GC_LC_4 (io), AE14 IO_L5P_GC_LC_4 (io), AF10 IO_L4N_GC_VREF_LC_4 (io), AF11 IO_L4P_GC_LC_4 (io), AF12 IO_L1P_GC_LC_4 (io)
part F pins: A18 IO_L3N_5 (io), A19 IO_L13N_5 (io), A20 IO_L13P_5 (io), A21 IO_L15N_5 (io), A22 IO_L15P_5 (io), A23 IO_L8N_CC_LC_5 (io), A24 IO_L8P_CC_LC_5 (io), B18 IO_L3P_5 (io), B19 VCCO_5 (io), B20 IO_L2N_5 (io), B21 IO_L6N_5 (io), B22 VCCO_5 (io), B23 IO_L10N_5 (io), B24 IO_L10P_5 (io), C17 IO_L1P_5 (io), C19 IO_L7P_5 (io), C20 IO_L2P_5 (io), C21 IO_L6P_5 (io), C22 IO_L14N_5 (io), C23 IO_L21N_5 (io), C24 IO_L16N_5 (io), C25 IO_L20N_VREF_5 (io), C26 IO_L20P_5 (io), D17 IO_L1N_5 (io), D18 IO_L7N_5 (io), D19 IO_L4N_VREF_5 (io), D20 IO_L4P_5 (io), D21 IO_L12N_VREF_5 (io), D22 IO_L14P_5 (io), D23 IO_L21P_5 (io), D24 IO_L16P_5 (io), D25 IO_L25N_CC_LC_5 (io), D26 IO_L25P_CC_LC_5 (io), E17 IO_L5P_5 (io), E18 IO_L11N_5 (io), E19 VCCO_5 (io), E20 IO_L19N_5 (io), E21 IO_L12P_5 (io), E22 IO_L18N_5 (io), E23 IO_L18P_5 (io), E24 IO_L27N_5 (io), E25 IO_L27P_5 (io), E26 IO_L29N_5 (io), F17 IO_L5N_5 (io), F18 IO_L11P_5 (io), F19 IO_L17N_5 (io), F20 IO_L19P_5 (io), F22 VCCO_5 (io), F23 IO_L24N_CC_LC_5 (io), F24 IO_L24P_CC_LC_5 (io), F25 VCCO_5 (io), F26 IO_L29P_5 (io), G17 IO_L9N_CC_LC_5 (io), G18 IO_L9P_CC_LC_5 (io), G19 IO_L17P_5 (io), G20 IO_L22N_5 (io), G21 IO_L23N_VRP_5 (io), G22 IO_L23P_VRN_5 (io), G23 IO_L28N_VREF_5 (io), G24 IO_L28P_5 (io), G25 IO_L31N_5 (io), G26 IO_L31P_5 (io), H18 VCCO_5 (io), H19 VCCO_5 (io), H20 IO_L22P_5 (io), H21 IO_L26N_5 (io), H22 IO_L26P_5 (io), H23 IO_L30N_5 (io), H24 IO_L30P_5 (io), H25 IO_L32N_5 (io), H26 IO_L32P_5 (io), J19 VCCO_5 (io)
part G pins: A3 IO_L14P_6 (io), A4 IO_L15P_6 (io), A5 IO_L6N_6 (io), A6 IO_L6P_6 (io), A7 IO_L3N_6 (io), A8 IO_L3P_6 (io), A9 IO_L13P_6 (io), B3 IO_L14N_6 (io), B4 IO_L15N_6 (io), B5 VCCO_6 (io), B6 IO_L8P_CC_LC_6 (io), B7 IO_L11P_6 (io), B8 VCCO_6 (io), B9 IO_L13N_6 (io), C1 IO_L20N_VREF_6 (io), C2 IO_L20P_6 (io), C4 IO_L16P_6 (io), C5 IO_L12P_6 (io), C6 IO_L8N_CC_LC_6 (io), C7 IO_L11N_6 (io), C8 IO_L2N_6 (io), C10 IO_L1N_6 (io), D1 IO_L25N_CC_LC_6 (io), D2 IO_L25P_CC_LC_6 (io), D3 IO_L22P_6 (io), D4 IO_L16N_6 (io), D5 IO_L12N_VREF_6 (io), D6 IO_L17N_6 (io), D7 IO_L4N_VREF_6 (io), D8 IO_L4P_6 (io), D9 IO_L2P_6 (io), D10 IO_L1P_6 (io), E1 IO_L26P_6 (io), E2 IO_L24N_CC_LC_6 (io), E3 IO_L24P_CC_LC_6 (io), E4 IO_L22N_6 (io), E5 IO_L18N_6 (io), E6 IO_L18P_6 (io), E7 IO_L17P_6 (io), E8 VCCO_6 (io), E9 IO_L7P_6 (io), E10 IO_L5N_6 (io), F1 IO_L26N_6 (io), F2 VCCO_6 (io), F3 IO_L27N_6 (io), F4 IO_L27P_6 (io), F5 VCCO_6 (io), F7 IO_L19P_6 (io), F8 IO_L10P_6 (io), F9 IO_L7N_6 (io), F10 IO_L5P_6 (io), G1 IO_L30N_6 (io), G2 IO_L30P_6 (io), G3 IO_L28N_VREF_6 (io), G4 IO_L28P_6 (io), G5 IO_L23N_VRP_6 (io), G6 IO_L23P_VRN_6 (io), G7 IO_L19N_6 (io), G8 IO_L10N_6 (io), G9 IO_L9N_CC_LC_6 (io), G10 IO_L9P_CC_LC_6 (io), H1 IO_L32N_6 (io), H2 IO_L32P_6 (io), H3 IO_L31N_6 (io), H4 IO_L31P_6 (io), H5 IO_L29N_6 (io), H6 IO_L29P_6 (io), H7 IO_L21N_6 (io), H8 IO_L21P_6 (io), H9 VCCO_6 (io), H10 VCCO_6 (io), J8 VCCO_6 (io)
part H pins: AA17 IO_L27N_SM5_7 (io), AA18 IO_L21P_7 (io), AA19 IO_L26P_SM6_7 (io), AA20 IO_L26N_SM6_7 (io), AA22 VCCO_7 (io), AA23 IO_L14N_7 (io), AA24 IO_L8P_CC_LC_7 (io), AA25 VCCO_7 (io), AA26 IO_L10N_7 (io), AB18 IO_L29N_SM4_7 (io), AB19 VCCO_7 (io), AB20 IO_L28P_7 (io), AB21 IO_L24N_CC_LC_7 (io), AB22 IO_L13N_7 (io), AB23 IO_L14P_7 (io), AB24 IO_L7P_7 (io), AB25 IO_L7N_7 (io), AB26 IO_L10P_7 (io), AC18 IO_L29P_SM4_7 (io), AC19 IO_L25N_CC_SM7_LC_7 (io), AC20 IO_L28N_VREF_7 (io), AC21 IO_L24P_CC_LC_7 (io), AC22 IO_L13P_7 (io), AC23 IO_L16P_7 (io), AC24 IO_L16N_7 (io), AC25 IO_L9P_CC_LC_7 (io), AC26 IO_L9N_CC_LC_7 (io), AD19 IO_L25P_CC_SM7_LC_7 (io), AD20 IO_L23N_VRP_7 (io), AD21 IO_L32N_SM1_7 (io), AD22 IO_L15P_7 (io), AD23 IO_L15N_7 (io), AD25 IO_L11P_7 (io), AD26 IO_L11N_7 (io), AE18 IO_L31N_SM2_7 (io), AE19 VCCO_7 (io), AE20 IO_L23P_VRN_7 (io), AE21 IO_L32P_SM1_7 (io), AE22 VCCO_7 (io), AE23 IO_L19N_7 (io), AE24 IO_L22N_7 (io), AF18 IO_L31P_SM2_7 (io), AF19 IO_L17P_7 (io), AF20 IO_L17N_7 (io), AF21 IO_L30P_SM3_7 (io), AF22 IO_L30N_SM3_7 (io), AF23 IO_L19P_7 (io), AF24 IO_L22P_7 (io), V19 VCCO_7 (io), V20 IO_L5N_7 (io), V21 IO_L1P_7 (io), V22 IO_L1N_7 (io), W17 VCCO_7 (io), W18 VCCO_7 (io), W19 IO_L18N_7 (io), W20 IO_L5P_7 (io), W21 IO_L3P_7 (io), W22 IO_L3N_7 (io), W23 IO_L4P_7 (io), W24 IO_L4N_VREF_7 (io), W25 IO_L2P_7 (io), W26 IO_L2N_7 (io), Y17 IO_L27P_SM5_7 (io), Y18 IO_L21N_7 (io), Y19 IO_L18P_7 (io), Y20 IO_L20P_7 (io), Y21 IO_L20N_VREF_7 (io), Y22 IO_L12P_7 (io), Y23 IO_L12N_VREF_7 (io), Y24 IO_L8N_CC_LC_7 (io), Y25 IO_L6P_7 (io), Y26 IO_L6N_7 (io)
part I pins: AA1 IO_L10N_8 (io), AA2 VCCO_8 (power), AA3 IO_L7N_8 (io), AA4 IO_L7P_8 (io), AA5 VCCO_8 (power), AA7 IO_L20P_8 (io), AA8 IO_L26P_8 (io), AA9 IO_L21P_8 (io), AA10 IO_L27N_8 (io), AB1 IO_L10P_8 (io), AB2 IO_L12N_VREF_8 (io), AB3 IO_L12P_8 (io), AB4 IO_L11N_8 (io), AB5 IO_L13N_8 (io), AB6 IO_L24N_CC_LC_8 (io), AB7 IO_L28N_VREF_8 (io), AB8 VCCO_8 (power), AB9 IO_L29N_8 (io), AC1 IO_L14N_8 (io), AC2 IO_L14P_8 (io), AC3 IO_L18N_8 (io), AC4 IO_L11P_8 (io), AC5 IO_L13P_8 (io), AC6 IO_L24P_CC_LC_8 (io), AC7 IO_L28P_8 (io), AC8 IO_L32N_8 (io), AC9 IO_L29P_8 (io), AD1 IO_L16N_8 (io), AD2 IO_L16P_8 (io), AD3 IO_L18P_8 (io), AD4 IO_L22N_8 (io), AD5 IO_L22P_8 (io), AD6 IO_L30N_8 (io), AD7 IO_L23N_VRP_8 (io), AD8 IO_L32P_8 (io), AE3 IO_L15N_8 (io), AE4 IO_L17N_8 (io), AE5 VCCO_8 (power), AE6 IO_L30P_8 (io), AE7 IO_L23P_VRN_8 (io), AE8 VCCO_8 (power), AE9 IO_L31N_8 (io), AF3 IO_L15P_8 (io), AF4 IO_L17P_8 (io), AF5 IO_L19N_8 (io), AF6 IO_L19P_8 (io), AF7 IO_L25N_CC_LC_8 (io), AF8 IO_L25P_CC_LC_8 (io), AF9 IO_L31P_8 (io), V5 IO_L2N_8 (io), V6 IO_L2P_8 (io), V7 IO_L3N_8 (io), V8 VCCO_8 (power), W1 IO_L1N_8 (io), W2 IO_L1P_8 (io), W3 IO_L4N_VREF_8 (io), W4 IO_L4P_8 (io), W5 IO_L5N_8 (io), W6 IO_L5P_8 (io), W7 IO_L3P_8 (io), W8 VCCO_8 (power), W9 VCCO_8 (power), Y1 IO_L6N_8 (io), Y2 IO_L6P_8 (io), Y3 IO_L8N_CC_LC_8 (io), Y4 IO_L8P_CC_LC_8 (io), Y5 IO_L9N_CC_LC_8 (io), Y6 IO_L9P_CC_LC_8 (io), Y7 IO_L20N_VREF_8 (io), Y8 IO_L26N_8 (io), Y9 IO_L21N_8 (io), Y10 IO_L27P_8 (io)
part J pins: J20 IO_L1N_9 (io), J21 IO_L1P_9 (io), J22 IO_L2N_9 (io), J23 IO_L2P_9 (io), J25 IO_L4N_VREF_9 (io), J26 IO_L4P_9 (io), K19 VCCO_9 (power), K20 IO_L5N_9 (io), K21 IO_L3N_9 (io), K22 IO_L3P_9 (io), K23 IO_L7N_9 (io), K24 IO_L7P_9 (io), K25 IO_L8N_CC_LC_9 (io), K26 IO_L8P_CC_LC_9 (io), L19 IO_L5P_9 (io), L20 IO_L6N_9 (io), L21 IO_L6P_9 (io), L22 VCCO_9 (power), L23 IO_L10N_9 (io), L24 IO_L10P_9 (io), L25 VCCO_9 (power), L26 IO_L12P_9 (io), M18 VCCO_9 (power), M19 IO_L9P_CC_LC_9 (io), M20 IO_L13N_9 (io), M21 IO_L13P_9 (io), M22 IO_L14N_9 (io), M23 IO_L14P_9 (io), M24 IO_L11N_9 (io), M25 IO_L11P_9 (io), M26 IO_L12N_VREF_9 (io), N19 IO_L9N_CC_LC_9 (io), N20 IO_L17N_9 (io), N21 IO_L17P_9 (io), N22 IO_L16N_9 (io), N23 IO_L16P_9 (io), N24 IO_L15N_9 (io), N25 IO_L15P_9 (io), P19 IO_L21N_9 (io), P20 IO_L21P_9 (io), P22 IO_L19N_9 (io), P23 IO_L19P_9 (io), P24 IO_L18N_9 (io), P25 IO_L18P_9 (io), P26 VCCO_9 (power), R19 IO_L25N_CC_LC_9 (io), R20 IO_L25P_CC_LC_9 (io), R21 IO_L23N_VRP_9 (io), R22 IO_L23P_VRN_9 (io), R23 IO_L22N_9 (io), R24 IO_L22P_9 (io), R25 IO_L20N_VREF_9 (io), R26 IO_L20P_9 (io), T19 IO_L31N_9 (io), T20 IO_L30N_9 (io), T21 IO_L30P_9 (io), T22 VCCO_9 (power), T23 IO_L24N_CC_LC_9 (io), T24 IO_L24P_CC_LC_9 (io), T25 VCCO_9 (power), T26 IO_L26P_9 (io), U19 VCCO_9 (power), U20 IO_L31P_9 (io), U21 IO_L29N_9 (io), U22 IO_L29P_9 (io), U23 IO_L27P_9 (io), U24 IO_L28N_VREF_9 (io), U25 IO_L28P_9 (io), U26 IO_L26N_9 (io), V23 IO_L27N_9 (io), V25 IO_L32N_9 (io), V26 IO_L32P_9 (io)
part K pins: J1 IO_L4N_VREF_10 (io), J2 IO_L4P_10 (io), J4 IO_L2N_10 (io), J5 IO_L2P_10 (io), J6 IO_L1N_10 (io), J7 IO_L1P_10 (io), K1 IO_L10N_10 (io), K2 IO_L7N_10 (io), K3 IO_L7P_10 (io), K4 IO_L6N_10 (io), K5 IO_L6P_10 (io), K6 IO_L3N_10 (io), K7 IO_L3P_10 (io), K8 VCCO_10 (power), L1 IO_L10P_10 (io), L2 VCCO_10 (power), L3 IO_L8N_CC_LC_10 (io), L4 IO_L8P_CC_LC_10 (io), L5 VCCO_10 (power), L6 IO_L5N_10 (io), L7 IO_L5P_10 (io), L8 IO_L9N_CC_LC_10 (io), M1 IO_L11N_10 (io), M2 IO_L11P_10 (io), M3 IO_L12N_VREF_10 (io), M4 IO_L12P_10 (io), M5 IO_L13N_10 (io), M6 IO_L13P_10 (io), M7 IO_L17N_10 (io), M8 IO_L9P_CC_LC_10 (io), N1 VCCO_10 (power), N2 IO_L14N_10 (io), N3 IO_L14P_10 (io), N4 IO_L15N_10 (io), N5 IO_L15P_10 (io), N7 IO_L17P_10 (io), N8 IO_L19N_10 (io), P2 IO_L16N_10 (io), P3 IO_L16P_10 (io), P4 IO_L18N_10 (io), P5 IO_L18P_10 (io), P6 IO_L21N_10 (io), P7 IO_L21P_10 (io), P8 IO_L19P_10 (io), R1 IO_L22N_10 (io), R2 IO_L22P_10 (io), R3 IO_L20N_VREF_10 (io), R4 IO_L20P_10 (io), R5 IO_L23N_VRP_10 (io), R6 IO_L23P_VRN_10 (io), R7 IO_L25N_CC_LC_10 (io), R8 IO_L25P_CC_LC_10 (io), R9 VCCO_10 (power), T1 IO_L24N_CC_LC_10 (io), T2 VCCO_10 (power), T3 IO_L26N_10 (io), T4 IO_L26P_10 (io), T5 VCCO_10 (power), T6 IO_L27N_10 (io), T7 IO_L27P_10 (io), T8 IO_L31P_10 (io), U1 IO_L24P_CC_LC_10 (io), U2 IO_L28N_VREF_10 (io), U3 IO_L28P_10 (io), U4 IO_L29N_10 (io), U5 IO_L32N_10 (io), U6 IO_L32P_10 (io), U7 IO_L31N_10 (io), U8 VCCO_10 (power), V1 IO_L30N_10 (io), V2 IO_L30P_10 (io), V4 IO_L29P_10 (io)
part L pins: AE15 VREFN_SM (power), AE16 VREFP_SM (power), AE17 AVSS_SM (power), AF15 VN_SM (power), AF16 VP_SM (power), AF17 AVDD_SM (power), H11 VCCAUX (power), H16 VCCAUX (power), H17 VCCAUX (power), J10 VCCINT (power), J11 VCCINT (power), J12 VCCAUX (power), J16 VCCINT (power), J17 VCCINT (power), K9 VCCINT (power), K10 VCCINT (power), K17 VCCINT (power), K18 VCCINT (power), L9 VCCINT (power), L10 VCCINT (power), L11 VCCINT (power), L16 VCCINT (power), L17 VCCINT (power), L18 VCCINT (power), M9 VCCAUX (power), M12 VCCINT (power), M15 VCCINT (power), N9 VCCAUX (power), N18 VCCAUX (power), P9 VCCAUX (power), P18 VCCAUX (power), R12 VCCINT (power), R15 VCCINT (power), R18 VCCAUX (power), T9 VCCINT (power), T10 VCCINT (power), T11 VCCINT (power), T16 VCCINT (power), T17 VCCINT (power), T18 VCCINT (power), U9 VCCINT (power), U10 VCCINT (power), U17 VCCINT (power), U18 VCCINT (power), V10 VCCINT (power), V11 VCCINT (power), V15 VCCAUX (power), V16 VCCINT (power), V17 VCCINT (power), W10 VCCAUX (power), W11 VCCAUX (power), W16 VCCAUX (power)
part M pins: A2 GND (power), A13 GND (power), A14 GND (power), A25 GND (power), AA6 GND (power), AA21 GND (power), AB12 GND (power), AB15 GND (power), AD9 GND (power), AD18 GND (power), AD24 GND (power), AE1 GND (power), AE2 GND (power), AE25 GND (power), AE26 GND (power), AF2 GND (power), AF13 GND (power), AF14 GND (power), AF25 GND (power), B1 GND (power), B2 GND (power), B25 GND (power), B26 GND (power), C3 GND (power), C9 GND (power), C18 GND (power), E12 GND (power), E15 GND (power), F6 GND (power), F21 GND (power), J3 GND (power), J13 GND (power), J14 GND (power), J24 GND (power), K11 GND (power), K12 GND (power), K13 GND (power), K14 GND (power), K15 GND (power), K16 GND (power), L12 GND (power), L13 GND (power), L14 GND (power), L15 GND (power), M10 GND (power), M11 GND (power), M13 GND (power), M14 GND (power), M16 GND (power), M17 GND (power), N6 GND (power), N10 GND (power), N11 GND (power), N12 GND (power), N13 GND (power), N14 GND (power), N15 GND (power), N16 GND (power), N17 GND (power), N26 GND (power), P1 GND (power), P10 GND (power), P11 GND (power), P12 GND (power), P13 GND (power), P14 GND (power), P15 GND (power), P16 GND (power), P17 GND (power), P21 GND (power), R10 GND (power), R11 GND (power), R13 GND (power), R14 GND (power), R16 GND (power), R17 GND (power), T12 GND (power), T13 GND (power), T14 GND (power), T15 GND (power), U11 GND (power), U12 GND (power), U13 GND (power), U14 GND (power), U15 GND (power), U16 GND (power), V3 GND (power), V13 GND (power), V14 GND (power), V24 GND (power)